# Altium footprint library ESP32-C3.PcbLib: 1 footprints
Each footprint in its own frame and in the unit in brackets; x right, y up, seen from the top. Pads: shape width x height; smd on the part's side, far side on the other; paste and mask are expansions set on the pad; w line width, h text height; cw(c..) or ccw(c..) is an arc to the next point about the centre after c.
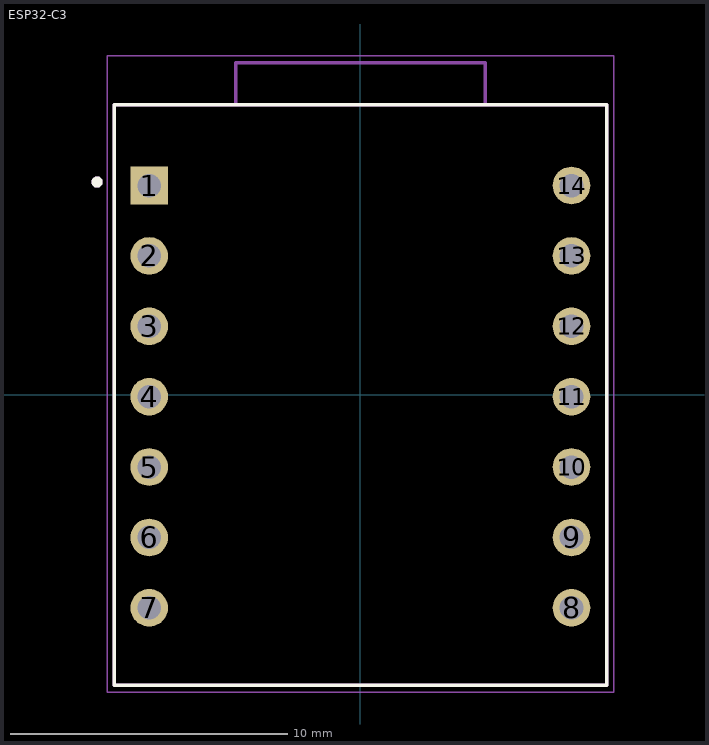
[diagram p0: the footprint, top view; thin cyan lines are the x and y axes]

## ESP32-C3 [mil]
pads (14):
  rect 53.46x53.46 hole 33.46: 1(-300,297.5)
  round 53.46 hole 33.46: 2(-300,197.5) 3(-300,97.5) 4(-300,-2.5) 5(-300,-102.5) 6(-300,-202.5) 7(-300,-302.5) 8(300,-302.5) 9(300,-202.5) 10(300,-102.5) 11(300,-2.5) 12(300,97.5) 13(300,197.5) 14(300,297.5)
Top Overlay:
  circle w7.87: c-374.02,302.5 r3.94
  lines w5: -350,-412.5 -350,412.5 350,412.5 350,-412.5 -350,-412.5
Mechanical 4:
  circle w7.87: c-374.02,302.5 r3.94
  circle w7.87: c-374.02,302.5 r3.94
  lines w5: -350,-412.5 -350,412.5 ; -350,-412.5 350,-412.5 ; -350,-412.5 -350,412.5 ; -350,-412.5 350,-412.5 ; -350,412.5 -177.17,412.5 ; -350,412.5 -177.17,412.5 ; -177.17,412.5 177.17,412.5 ; -177.17,412.5 -177.17,471.95 ; -177.17,412.5 177.17,412.5 ; -177.17,412.5 -177.17,471.95 ; -177.17,471.95 177.17,471.95 ; -177.17,471.95 177.17,471.95 ; 177.17,412.5 350,412.5 ; 177.17,412.5 177.17,471.95 ; 177.17,412.5 350,412.5 ; 177.17,412.5 177.17,471.95 ; 350,-412.5 350,412.5 ; 350,-412.5 350,412.5
Mechanical 16:
  lines w1.97: -359.84,-422.34 -359.84,481.79 359.84,481.79 359.84,-422.34 -359.84,-422.34